# Altium footprint library PCB1.PcbLib: 50 footprints (part 1 of 4)
Each footprint in its own frame and in the unit in brackets; x right, y up, seen from the top. Pads: shape width x height; smd on the part's side, far side on the other; paste and mask are expansions set on the pad; w line width, h text height; cw(c..) or ccw(c..) is an arc to the next point about the centre after c.
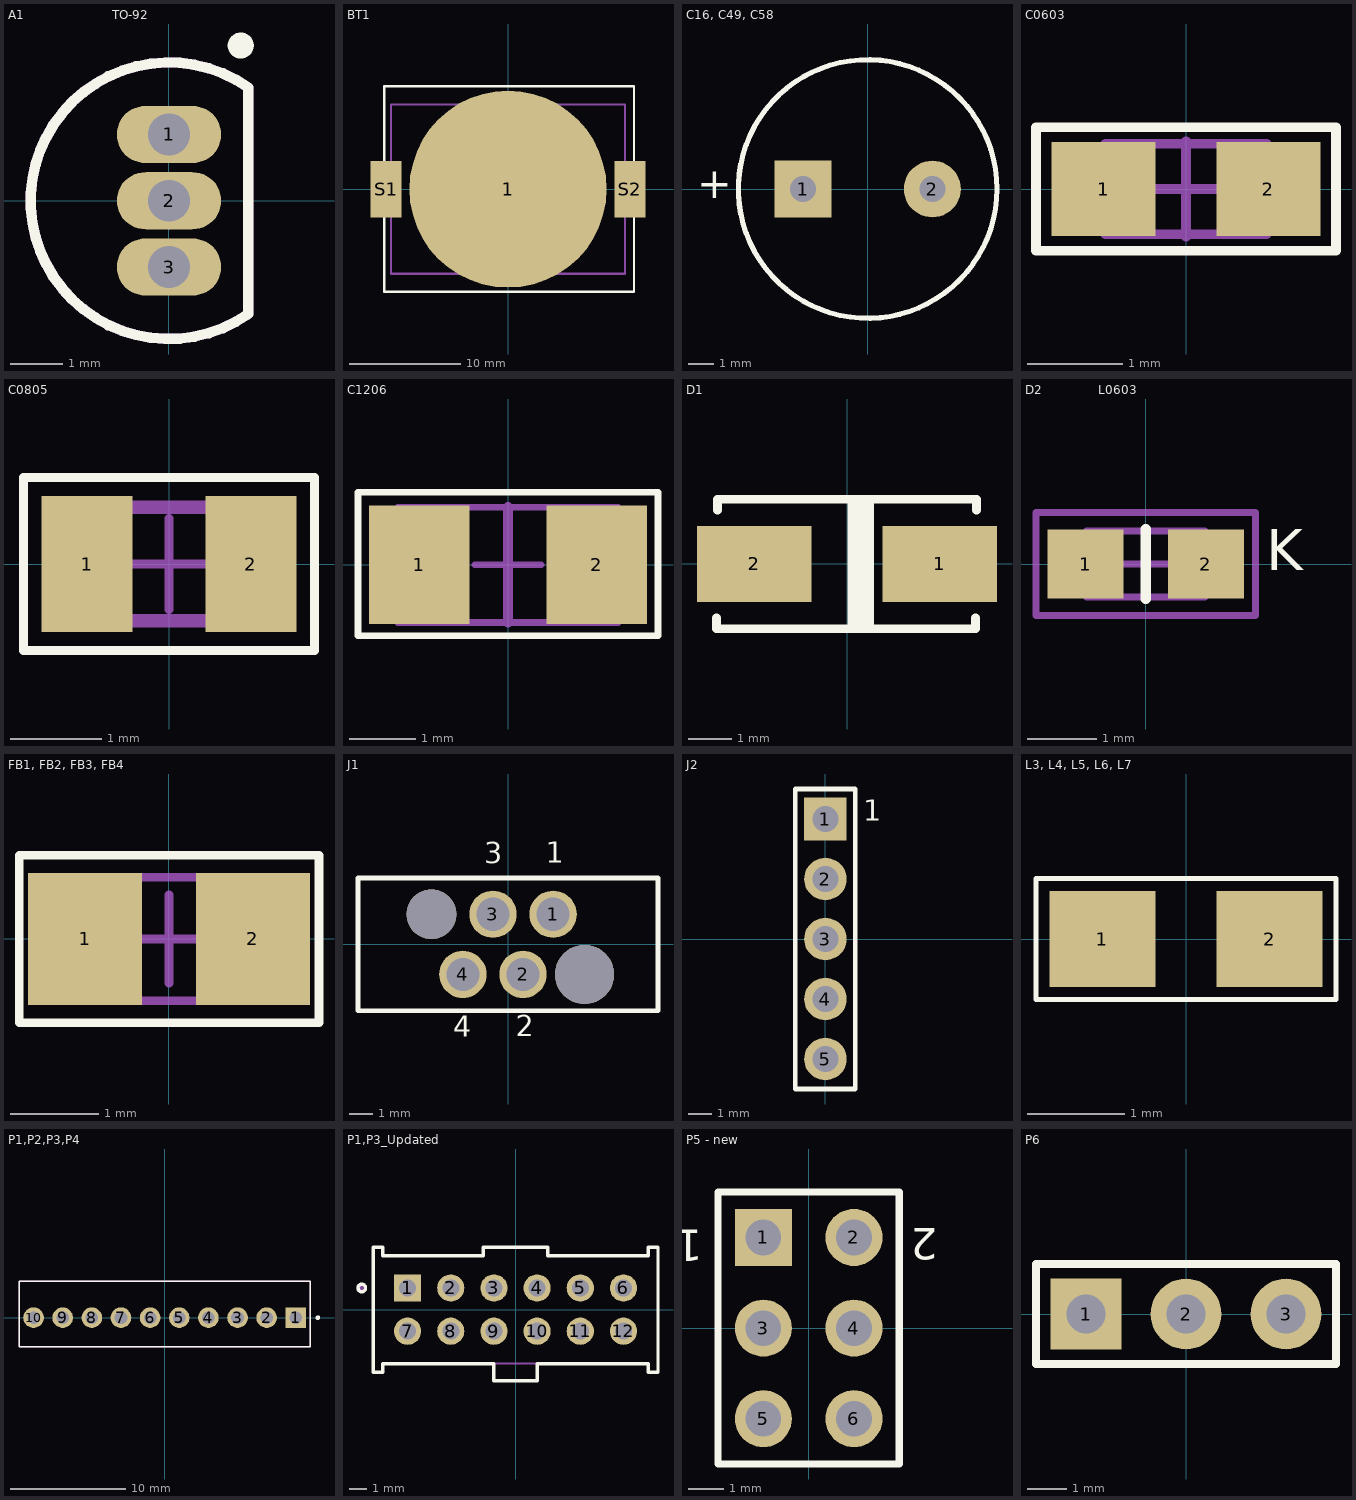
[diagram p0: the footprints below, top view; thin cyan lines are the x and y axes]

## A1                      TO-92 [mm] "TO, Flat Index; 3 In-Line, Axial Leads; Body Dia. 4.8mm; Leads 0.55 x 0.51 mm (max)"
height 5.33
pads (3):
  oval 2x1.1 hole 0.8 mask+0.075: 1(0,1.27) 2(0,0) 3(0,-1.27)
Top Overlay:
  circle w0.25: c1.375,2.975 r0.125
  lines w0.2: 1.52,-2.171 cw(c0,0) 1.52,2.171 1.52,-2.171
Mechanical 13:
  lines w0.2: 1.52,-2.171 cw(c0,0) 1.52,2.171 1.52,-2.171
Mechanical 15:
  lines w0.1: -0.5,0 0.5,0 ; 0,-0.5 0,0.5
3D body: height 9.82, standoff -9.7, extent -2.196,-2.365 1.434,2.395

## BT1 [mm]
pads (3):
  round 17.78 smd: 1(0,0)
  rect 2.79x5.08 smd: S1(-10.985,0) S2(10.985,0)
Top Overlay:
  lines w0.2: -11.15,-9.25 11.35,-9.25 11.35,9.275 -11.15,9.275 -11.15,-9.25
Mechanical 13:
  lines w0.2: -10.54,-7.62 10.54,-7.62 10.54,7.62 -10.54,7.62 -10.54,-7.62
  text "Battery Enter From This Side" at -11.675,-11.55 h2
3D body "BK-912.STEP": height 4.32, standoff 0, extent -11.23,-7.82 11.63,7.42

## C16, C49, C58 [mm]
height 2.4
pads (2):
  rect 2.2x2.2 hole 1: 1(-2.5,0)
  round 2.2 hole 1: 2(2.5,0)
Top Overlay:
  circle w0.2: c0,0 r5
  text "+" at -6.6,-0.75 h2

## C0603 [mil]
height 23.62
pads (2):
  rect 43x39 smd: 1(-34.03,0) 2(34.03,0)
Top Overlay:
  lines w3.94: -62.01,-25.59 -62.01,25.59 62.01,25.59 62.01,-25.59 -62.01,-25.59
Mechanical 13:
  lines w3.94: -33.46,-18.7 33.46,-18.7 33.46,18.7 -33.46,18.7 -33.46,-18.7
Mechanical 15:
  lines w3.94: -19.69,0 19.68,0 ; 0,-19.68 0,19.69
3D body: height 11.89, standoff 0, extent -31.5,-15.75 31.5,15.75

## C0805 [mm]
height 4.7
pads (2):
  rect 1x1.5 smd: 1(-0.9,0) 2(0.9,0)
Top Overlay:
  lines w0.1: -1.6,-0.95 1.6,-0.95 1.6,0.95 -1.6,0.95 -1.6,-0.95
Mechanical 13:
  lines w0.15: -1,-0.625 1,-0.625 1,0.625 0,0.625 -1,0.625 -1,-0.625
Mechanical 15:
  lines w0.1: -0.5,0 0.5,0 ; 0,-0.5 0,0.5
3D body "0805 Cap.step": height 0.78, standoff 0, extent -1,-0.625 1,0.625

## C1206 [mil]
pads (2):
  rect 60x70.9 smd paste+0 mask+4: 1(-53,0) 2(53,0)
Top Overlay:
  lines w3.94: -89.57,-42.32 -89.57,43.31 89.57,43.31 89.57,-42.32 -89.57,-42.32
Mechanical 13:
  lines w3.94: -65.94,-34.45 -65.94,34.45 65.94,34.45 65.94,-34.45 -65.94,-34.45
  lines w6: 0,-34.45 0,34.45
Mechanical 15:
  lines w3.94: -19.68,0 19.69,0 ; 0,-19.69 0,19.68
3D body "1206 Cap.step": height 39.45, standoff 0, extent -62.99,-31.5 62.99,31.5

## D1 [mm]
height 2.4
pads (2):
  rect 2.65x1.75 smd: 1(2.15,0) 2(-2.15,0)
Top Overlay:
  rectangle: 0.016,-1.5 0.62,1.5
  lines w0.2: -3.022,-1.243 -3.022,-1.5 -3,-1.5 2.978,-1.5 2.978,-1.243 ; -3,1.243 -3,1.5 ; -2.978,1.5 -3,1.5 ; 2.978,1.5 3,1.5 ; 3,1.243 3,1.5 ; -3,1.5 3,1.5
3D body: height 2.6, standoff 0.03, extent -2.75,-1.4 2.75,1.4

## D2              L0603 [mil]
height 23.62
pads (2):
  rect 43x39 smd: 1(-34,0) 2(34,0)
Top Overlay:
  lines w6: 0,-19.68 0,19.69
  text "K" at 68.11,-11.14 h39.37
Mechanical 13:
  lines w3.94: -33.46,-18.7 33.46,-18.7 33.46,18.7 -33.46,18.7 -33.46,-18.7
Mechanical 15:
  lines w3.94: -19.69,0 19.68,0 ; 0,-19.68 0,19.69 ; -62,-29 -62,29 62,29 62,-29 -62,-29
3D body: height 23.62, standoff -0.08, extent -31.5,-15.75 31.49,15.74

## FB1, FB2, FB3, FB4 [mil] "R0603"
height 94.49
pads (2):
  rect 51x59 smd: 1(-37.5,0) 2(37.5,0)
Top Overlay:
  lines w3.94: -66.92,-37.41 66.94,-37.41 66.94,37.4 -66.92,37.4 -66.92,-37.41
Mechanical 13:
  lines w3.94: -42.32,-27.57 42.33,-27.57 42.33,27.55 -42.32,27.55 -42.32,-27.57
Mechanical 15:
  lines w3.94: -19.68,-0.01 19.69,-0.01 ; 0.01,-19.69 0.01,19.68
3D body "STEP-WE-CBA-0805-rev1.stp": height 37.4, standoff 1.97, extent -39.37,-23.62 39.37,23.62

## J1 [mm]
height 2.4
pads (6):
  round 2 hole 1.4: 1(1.905,1.27) 2(0.635,-1.27) 3(-0.635,1.27) 4(-1.905,-1.27)
  round 2.1 hole 2.1 unplated: ""(-3.235,1.27)
  round 2.5 hole 2.5 unplated: ""(3.235,-1.27)
Top Overlay:
  lines w0.2: -6.335,-2.8 -6.335,2.8 6.335,2.8 6.335,-2.8 -6.335,-2.8
  text "1" at 1.6,3.15 h1.5
  text "3" at -1,3.125 h1.5
  text "2" at 0.325,-4.175 h1.5
  text "4" at -2.305,-4.2 h1.5

## J2 [mm]
height 2.4
pads (5):
  rect 1.8x1.8 hole 1.1: 1(0,5.08)
  round 1.8 hole 1.1: 2(0,2.54) 3(0,0) 4(0,-2.54) 5(0,-5.08)
Top Overlay:
  lines w0.2: -1.27,-6.35 1.27,-6.35 1.27,6.35 -1.27,6.35 -1.27,-6.35
  text "1" at 1.6,4.7 h1.5
3D body: height 9.07, standoff -2.47, extent -1.27,-6.35 1.27,6.35

## L3, L4, L5, L6, L7 [mil] "R0603"
height 94.49
pads (2):
  rect 43x39 smd: 1(-34,0) 2(34,0)
Top Overlay:
  lines w2: -61.02,-24.61 -61.02,24.61 61.02,24.61 61.02,-24.61 -61.02,-24.61
3D body: height 22.05, standoff 0, extent -33.46,-15.75 33.46,15.75

## P1,P2,P3,P4 [mm]
pads (10):
  rect 1.8x1.8 hole 1.1: 1(11.43,0)
  round 1.8 hole 1.1: 2(8.89,0) 3(6.35,0) 4(3.81,0) 5(1.27,0) 6(-1.27,0) 7(-3.81,0) 8(-6.35,0) 9(-8.89,0) 10(-11.43,0)
Top Overlay:
  circle w0.2: c13.35,0 r0.1
  lines w0.127: -12.7,-2.54 -12.7,3.18 12.7,3.18 12.7,-2.54 -12.7,-2.54
Mechanical 13:
  lines w0.127: -12.7,-2.54 -12.7,3.18 ; -12.7,-2.54 12.7,-2.54 ; -12.7,-2.54 -12.7,3.18 ; -12.7,3.18 12.7,3.18 ; -12.7,3.18 12.7,3.18 ; 12.7,-2.54 12.7,3.18 ; 12.7,-2.54 12.7,3.18
3D body "1-640456-0.stp": height 10.49, standoff -3.1, extent -12.695,-2.736 12.705,3.106

## P1,P3_Updated [mm]
pads (12):
  rect 1.6x1.6 hole 1: 1(-6.35,1.27)
  round 1.6 hole 1: 2(-3.81,1.27) 3(-1.27,1.27) 4(1.27,1.27) 5(3.81,1.27) 6(6.35,1.27) 7(-6.35,-1.27) 8(-3.81,-1.27) 9(-1.27,-1.27) 10(1.27,-1.27) 11(3.81,-1.27) 12(6.35,-1.27)
Top Overlay:
  circle w0.2: c-9.044,1.27 r0.222
  lines w0.2: -8.38,-3.675 -7.809,-3.675 -7.809,-3.175 -1.27,-3.175 -1.27,-4.195 1.27,-4.195 1.27,-3.175 7.809,-3.175 7.809,-3.675 8.38,-3.675 8.38,3.675 7.809,3.675 7.809,3.175 1.905,3.175 1.905,3.675 -1.905,3.675 -1.905,3.175 -7.809,3.175 -7.809,3.675 -8.38,3.675 -8.38,-3.675
Mechanical 13:
  circle w0.2: c-9.144,1.27 r0.1
  lines w0.1: -1.27,-3.175 1.27,-3.175 ; -1.27,-3.175 -1.27,-4.195 1.27,-4.195 1.27,-3.175 ; -1.27,-3.175 -7.809,-3.175 -7.809,-3.675 -8.38,-3.675 -8.38,3.675 -7.809,3.675 -7.809,3.175 -1.905,3.175 -1.905,3.675 1.905,3.675 1.905,3.175 7.809,3.175 7.809,3.675 8.38,3.675 8.38,-3.675 7.809,-3.675 7.809,-3.175 1.27,-3.175

## P5 - new [mm]
height 2.4
pads (6):
  rect 1.6x1.6 hole 1: 1(-1.27,2.54)
  round 1.6 hole 1: 2(1.27,2.54) 3(-1.27,0) 4(1.27,0) 5(-1.27,-2.54) 6(1.27,-2.54)
Top Overlay:
  lines w0.2: -2.54,-3.81 -2.54,3.81 2.54,3.81 2.54,-3.81 -2.54,-3.81
  text "2" at 3.625,3.1 h1.5
  text "1" at -2.975,3.05 h1.5
3D body "HDR2X3.stp": height 8.57, standoff -2.97, extent -2.54,-3.81 2.54,3.81

## P6 [mm]
pads (3):
  rect 1.8x1.8 hole 1: 1(-2.54,0)
  round 1.8 hole 1: 2(0,0) 3(2.54,0)
Top Overlay:
  lines w0.2: -3.81,-1.27 -3.81,1.27 3.81,1.27 3.81,-1.27 -3.81,-1.27
3D body "HDR1X3 MALE.stp": height 9.07, standoff -2.47, extent -3.785,-1.22 3.835,1.32